# Altium footprint library C-1206.PcbLib: 3 footprints
Each footprint in its own frame and in the unit in brackets; x right, y up, seen from the top. Pads: shape width x height; smd on the part's side, far side on the other; paste and mask are expansions set on the pad; w line width, h text height; cw(c..) or ccw(c..) is an arc to the next point about the centre after c.
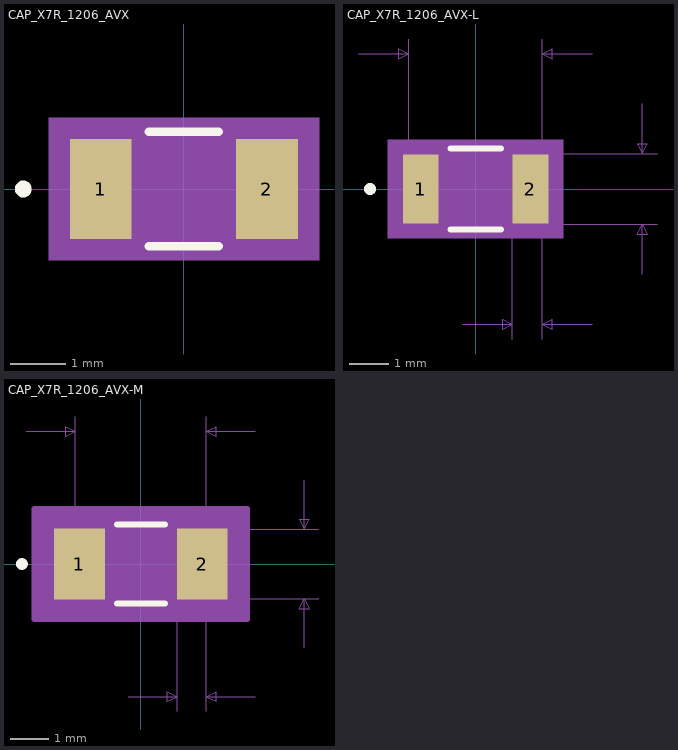
[diagram p0: the footprints below, top view; thin cyan lines are the x and y axes]

## CAP_X7R_1206_AVX [mil]
pads (2):
  rect 43.78x71 smd paste+0 mask+0: 1(-58.89,0) 2(58.89,0)
Top Overlay:
  circle w6: c-113.78,0 r3
  lines w6: -24.89,-40.5 24.89,-40.5 ; -24.89,40.5 24.89,40.5
Mechanical 5:
  region: 95.78,-50.5 -95.78,-50.5 -95.78,50.5 95.78,50.5
Mechanical 13:
  circle w0: c-53.89,0 r3
  lines w1: -67,-35.5 -67,35.5 ; -67,-35.5 -37,-35.5 -37,35.5 -67,35.5 ; -67,-35.5 67,-35.5 ; -67,-35.5 -67,35.5 ; -67,35.5 67,35.5 ; 67,-35.5 37,-35.5 37,35.5 67,35.5 ; 67,-35.5 67,35.5 ; 67,-35.5 67,35.5
Mechanical 15:
  region: 90.78,-45.5 -90.78,-45.5 -90.78,45.5 90.78,45.5
  lines w6: -90.78,-45.5 -90.78,45.5 90.78,45.5 90.78,-45.5 -90.78,-45.5
3D body "CAP_X7R_1206_AVX.step": height 50, standoff 0, extent -67,-35.51 67.01,35.51
3D body: height 10, standoff 0, extent 0,0 10,10

## CAP_X7R_1206_AVX-L [mil]
pads (2):
  rect 35.91x69.03 smd paste+0 mask+0: 1(-54.95,0) 2(54.95,0)
Top Overlay:
  circle w6: c-105.91,0 r3
  lines w6: -25.35,-40.5 25.35,-40.5 ; -25.35,40.5 25.35,40.5
Mechanical 5:
  region: 87.91,-49.52 -87.91,-49.52 -87.91,49.52 87.91,49.52
Mechanical 7:
  lines w1: -117,135.5 -67,135.5 ; -67,0 -67,150.5 ; -13,-135.5 37,-135.5 ; 0,-35.5 182,-35.5 ; 0,35.5 182,35.5 ; 37,-150.5 37,0 ; 67,-150.5 67,0 67,150.5 ; 117,-135.5 67,-135.5 ; 117,135.5 67,135.5 ; 167,-85.5 167,-35.5 ; 167,85.5 167,35.5 ; -67,135.5 -77,130.5 -77,140.5 -67,135.5 ; 37,-135.5 27,-140.5 27,-130.5 37,-135.5 ; 67,-135.5 77,-140.5 77,-130.5 67,-135.5 ; 67,135.5 77,130.5 77,140.5 67,135.5 ; 167,-35.5 172,-45.5 162,-45.5 167,-35.5 ; 167,35.5 172,45.5 162,45.5 167,35.5
  text "0.03in/0.762mm" at -35.5,-180.5 h25
  text "0.134in/3.404mm" at -93.75,155.5 h25
  text "0.071in/1.803mm" at 187,-12.5 h25
  text "Alternate 2 Padstyle: b229_152h76" at -412.5,-504.52 h50
  text "Alternate 1 Padstyle: b152_229h76" at -412.5,-404.52 h50
  text "Default Padstyle: r91_175" at -312.5,-304.52 h50
Mechanical 13:
  circle w0: c-49.95,0 r3
  lines w1: -67,-35.5 -67,35.5 ; -67,-35.5 67,-35.5 ; -67,-35.5 -37,-35.5 -37,35.5 -67,35.5 ; -67,-35.5 -67,35.5 ; -67,35.5 67,35.5 ; 67,-35.5 67,35.5 ; 67,-35.5 67,35.5 ; 67,-35.5 37,-35.5 37,35.5 67,35.5
Mechanical 15:
  region: 76.91,-38.52 -76.91,-38.52 -76.91,38.52 76.91,38.52
  lines w6: -76.91,-38.52 76.91,-38.52 76.91,38.52 -76.91,38.52 -76.91,-38.52
3D body: height 10, standoff 0, extent 0,0 10,10
3D body "CAP_X7R_1206_AVX-L.step": height 50, standoff 0, extent -67,-35.51 67.01,35.51

## CAP_X7R_1206_AVX-M [mil]
pads (2):
  rect 51.65x72.97 smd paste+0 mask+0: 1(-62.83,0) 2(62.83,0)
Top Overlay:
  circle w6: c-121.65,0 r3
  lines w6: -24.53,-40.5 24.53,-40.5 ; -24.53,40.5 24.53,40.5
Mechanical 5:
  region: 103.65,-51.48 -103.65,-51.48 -103.65,51.48 103.65,51.48
Mechanical 7:
  lines w1: -117,135.5 -67,135.5 ; -67,0 -67,150.5 ; -13,-135.5 37,-135.5 ; 0,-35.5 182,-35.5 ; 0,35.5 182,35.5 ; 37,-150.5 37,0 ; 67,-150.5 67,0 67,150.5 ; 117,-135.5 67,-135.5 ; 117,135.5 67,135.5 ; 167,-85.5 167,-35.5 ; 167,85.5 167,35.5 ; -67,135.5 -77,140.5 -77,130.5 -67,135.5 ; 37,-135.5 27,-130.5 27,-140.5 37,-135.5 ; 67,-135.5 77,-130.5 77,-140.5 67,-135.5 ; 67,135.5 77,140.5 77,130.5 67,135.5 ; 167,-35.5 162,-45.5 172,-45.5 167,-35.5 ; 167,35.5 162,45.5 172,45.5 167,35.5
  text "Default Padstyle: r131_185" at -325,-306.48 h50
  text "Alternate 1 Padstyle: b152_229h76" at -412.5,-406.48 h50
  text "Alternate 2 Padstyle: b229_152h76" at -412.5,-506.48 h50
  text "0.071in/1.803mm" at 187,-12.5 h25
  text "0.134in/3.404mm" at -93.75,155.5 h25
  text "0.03in/0.762mm" at -35.5,-180.5 h25
Mechanical 13:
  circle w0: c-57.83,0 r3
  lines w1: -67,-35.5 -67,35.5 ; -67,-35.5 -37,-35.5 -37,35.5 -67,35.5 ; -67,-35.5 67,-35.5 ; -67,-35.5 -67,35.5 ; -67,35.5 67,35.5 ; 67,-35.5 37,-35.5 37,35.5 67,35.5 ; 67,-35.5 67,35.5 ; 67,-35.5 67,35.5
Mechanical 15:
  region: 108.65,-56.48 -108.65,-56.48 -108.65,56.48 108.65,56.48
  lines w6: -108.65,-56.48 -108.65,56.48 108.65,56.48 108.65,-56.48 -108.65,-56.48
3D body "CAP_X7R_1206_AVX-M.step": height 50, standoff 0, extent -67,-35.51 67.01,35.51
3D body: height 10, standoff 0, extent 0,0 10,10